# Altium schematic symbol library Modules.SchLib: 36 symbols
Pins are listed as number, name and electrical type; pins without a type are passive.

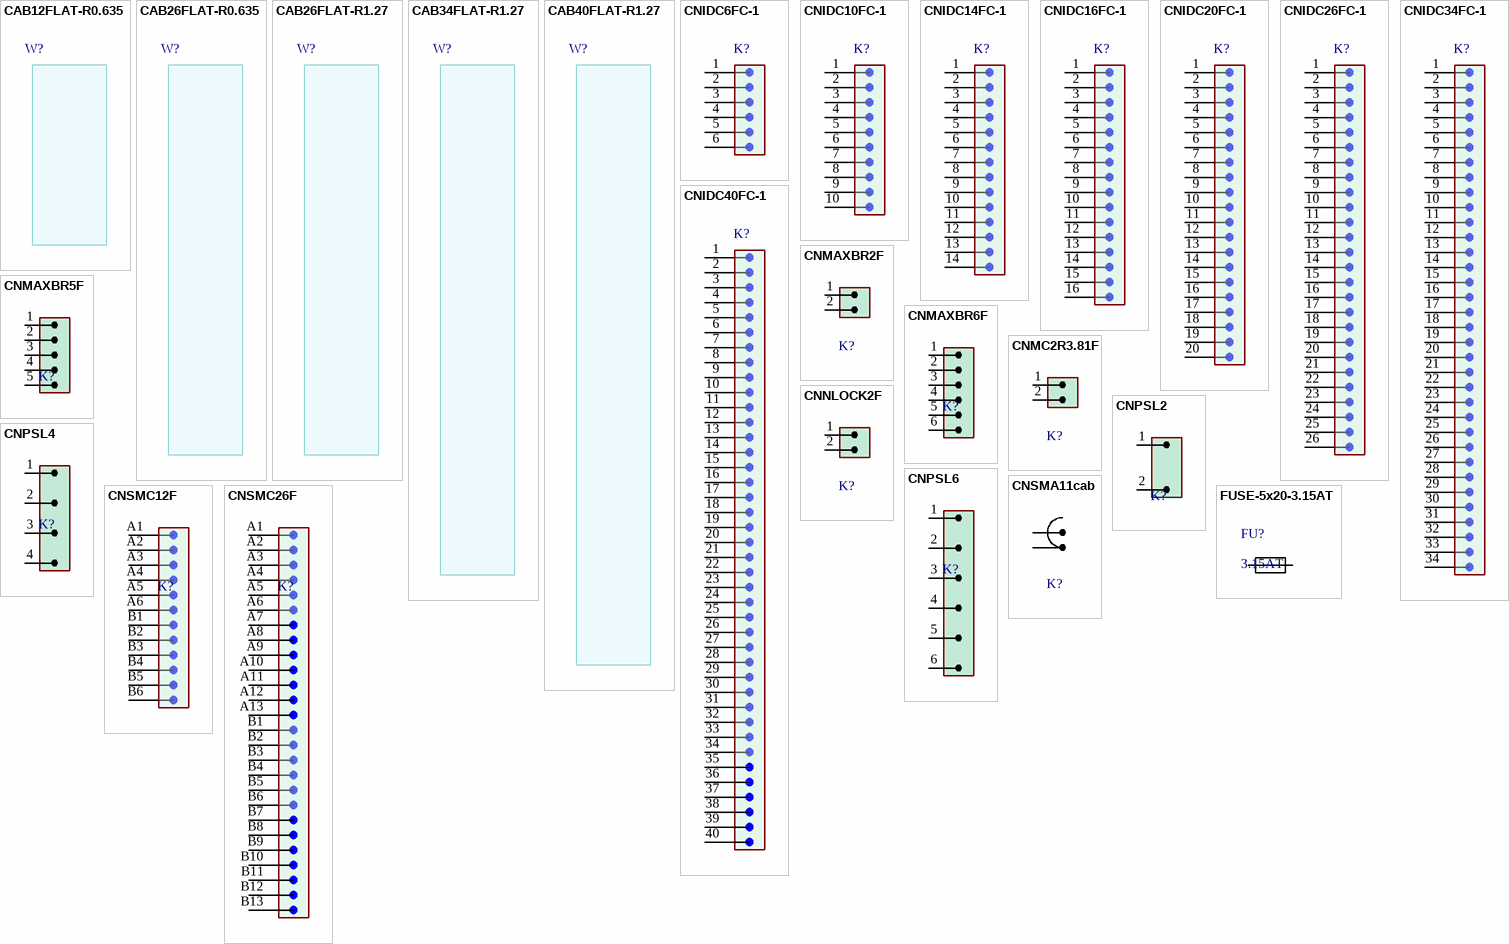
[diagram p0: symbols CAB12FLAT-R0.635 to FUSE-5x20-3.15AT]

## CAB12FLAT-R0.635
designator W?, comment 12way_26AWG_R0.635  (value not drawn)
Flat Cable 12Ways 26AWG R0.635; Sort: 610; Tech: MECH; Comment2: Length ?mm

## CAB26FLAT-R0.635
designator W?, comment 26way_26AWG_R0.635  (value not drawn)
Flat Cable 26Ways 26AWG R0.635; Sort: 610; Tech: MECH; Comment2: Length ?mm

## CAB26FLAT-R1.27
designator W?, comment 26way_26AWG_R1.27  (value not drawn)
Flat Cable 26Ways 26AWG R1.27; Sort: 610; Tech: MECH; Comment2: Length ?mm

## CAB34FLAT-R1.27
designator W?, comment 34way_26AWG_R1.27  (value not drawn)
Flat Cable 34Ways 26AWG R1.27; Sort: 610; Tech: MECH; Comment2: Length ?mm

## CAB40FLAT-R1.27
designator W?, comment 40way_26AWG_R1.27  (value not drawn)
Flat Cable 40Ways 26AWG R1.27; Sort: 610; Tech: MECH; Comment2: Length ?mm

## CNIDC6FC-1
designator K?, comment IDC6pin Female  (value not drawn)
Connector IDC 6 pin female cable; Sort: 610; Tech: THDW; Price: 0
pins: 1, 2, 3, 4, 5, 6

## CNIDC10FC-1
designator K?, comment IDC10pin Female  (value not drawn)
Connector IDC 10 pin female cable; Sort: 610; Tech: THDW; Price: 0
pins: 1, 2, 3, 4, 5, 6, 7, 8, 9, 10

## CNIDC14FC-1
designator K?, comment IDC14pin Female  (value not drawn)
Connector IDC 14 pin female cable; Sort: 610; Tech: THDW; Price: 0
pins: 1, 2, 3, 4, 5, 6, 7, 8, 9, 10, 11, 12, 13, 14

## CNIDC16FC-1
designator K?, comment IDC16pin Female  (value not drawn)
Connector IDC 16 pin female cable; Sort: 610; Tech: THDW; Price: 0
pins: 1, 2, 3, 4, 5, 6, 7, 8, 9, 10, 11, 12, 13, 14, 15, 16

## CNIDC20FC-1
designator K?, comment IDC20pin Female  (value not drawn)
Connector IDC 20 pin female cable; Sort: 610; Tech: THDW; Price: 0
pins: 1, 2, 3, 4, 5, 6, 7, 8, 9, 10, 11, 12, 13, 14, 15, 16, 17, 18, 19, 20

## CNIDC26FC-1
designator K?, comment IDC26pin Female  (value not drawn)
Connector IDC 26 pin female cable; Sort: 610; Tech: THDW; Price: 0
pins: 1, 2, 3, 4, 5, 6, 7, 8, 9, 10, 11, 12, 13, 14, 15, 16, 17, 18, 19, 20, 21, 22, 23, 24, 25, 26

## CNIDC34FC-1
designator K?, comment IDC34pin Female  (value not drawn)
Connector IDC 34 pin female cable; Sort: 610; Tech: THDW; Price: 0
pins: 1, 2, 3, 4, 5, 6, 7, 8, 9, 10, 11, 12, 13, 14, 15, 16, 17, 18, 19, 20, 21, 22, 23, 24, 25, 26, 27, 28, 29, 30, 31, 32, 33, 34

## CNIDC40FC-1
designator K?, comment IDC40pin Female  (value not drawn)
Connector IDC 40 pin female cable; Sort: 610; Tech: THDW; Price: 0
pins: 1, 2, 3, 4, 5, 6, 7, 8, 9, 10, 11, 12, 13, 14, 15, 16, 17, 18, 19, 20, 21, 22, 23, 24, 25, 26, 27, 28, 29, 30, 31, 32, 33, 34, 35, 36, 37, 38, 39, 40

## CNMAXBR2F
designator K?, comment ???  (value not drawn)
MaxBridge 2 pin female R2.54mm; Manufacturer: Erni; Sort: 610; Tech: THDW; Price: 0
pins: 1, 2

## CNMAXBR5F
designator K?, comment ???  (value not drawn)
MaxBridge 5 pin female R2.54mm; Manufacturer: Erni; Sort: 610; Tech: THDW; Price: 0
pins: 1, 2, 3, 4, 5

## CNMAXBR6F
designator K?, comment ???  (value not drawn)
MaxBridge 6 pin female R2.54mm; Manufacturer: Erni; Sort: 610; Tech: THDW; Price: 0
pins: 1, 2, 3, 4, 5, 6

## CNMC2R3.81F
designator K?, comment MC1.5/2-ST-3.81  (value not drawn)
Combicon 2 pin female R3.81mm; Manufacturer: PhoenixContact, Farnell; Sort: 610; Tech: THDW; Price: 0
pins: 1, 2

## CNNLOCK2F
designator K?, comment ???  (value not drawn)
Micro N Lock 2pin R3.0mm; Manufacturer: Molex; Sort: 610; Tech: THDW; Price: 0
pins: 1, 2

## CNPSL2
designator K?, comment ???  (value not drawn)
Combicon 2 pin female R3.81mm; Manufacturer: PhoenixContact, Farnell; Sort: 610; Tech: THDW; Price: 0
pins: 1, 2

## CNPSL4
designator K?, comment ???  (value not drawn)
Combicon 4 pin female R3.81mm; Manufacturer: PhoenixContact, Farnell; Sort: 610; Tech: THDW; Price: 0
pins: 1, 2, 3, 4

## CNPSL6
designator K?, comment ???  (value not drawn)
Combicon 6 pin female R3.81mm; Manufacturer: PhoenixContact, Farnell; Sort: 610; Tech: THDW; Price: 0
pins: 1, 2, 3, 4, 5, 6

## CNSMA11cab
designator K?, comment SMA  (value not drawn)
SMA connector for semi rigid 2.3mm cable 11mm long; Sort: 610; Tech: THDW; Price: 0
pins: 1, 2

## CNSMC12F
designator K?  (value not drawn)
Connector 26 pin female R1.27mm; Manufacturer: Erni; Sort: 610; Tech: THDW; Manufacturer No: CNSMC12F; Price: 0
pins: A1, A2, A3, A4, A5, A6, B1, B2, B3, B4, B5, B6

## CNSMC26F
designator K?, comment ???  (value not drawn)
Connector 26 pin female R1.27mm; Manufacturer: Erni; Sort: 610; Tech: THDW; Price: 0
pins: A1, A2, A3, A4, A5, A6, A7, A8, A9, A10, A11, A12, A13, B1, B2, B3, B4, B5, B6, B7, B8, B9, B10, B11, B12, B13

## FUSE-5x20-3.15AT
designator FU?, comment 3.15AT
Fuse 3.15A fast 2x50mm; Tech: MECH; Sort: 920; Package: 5x20mm

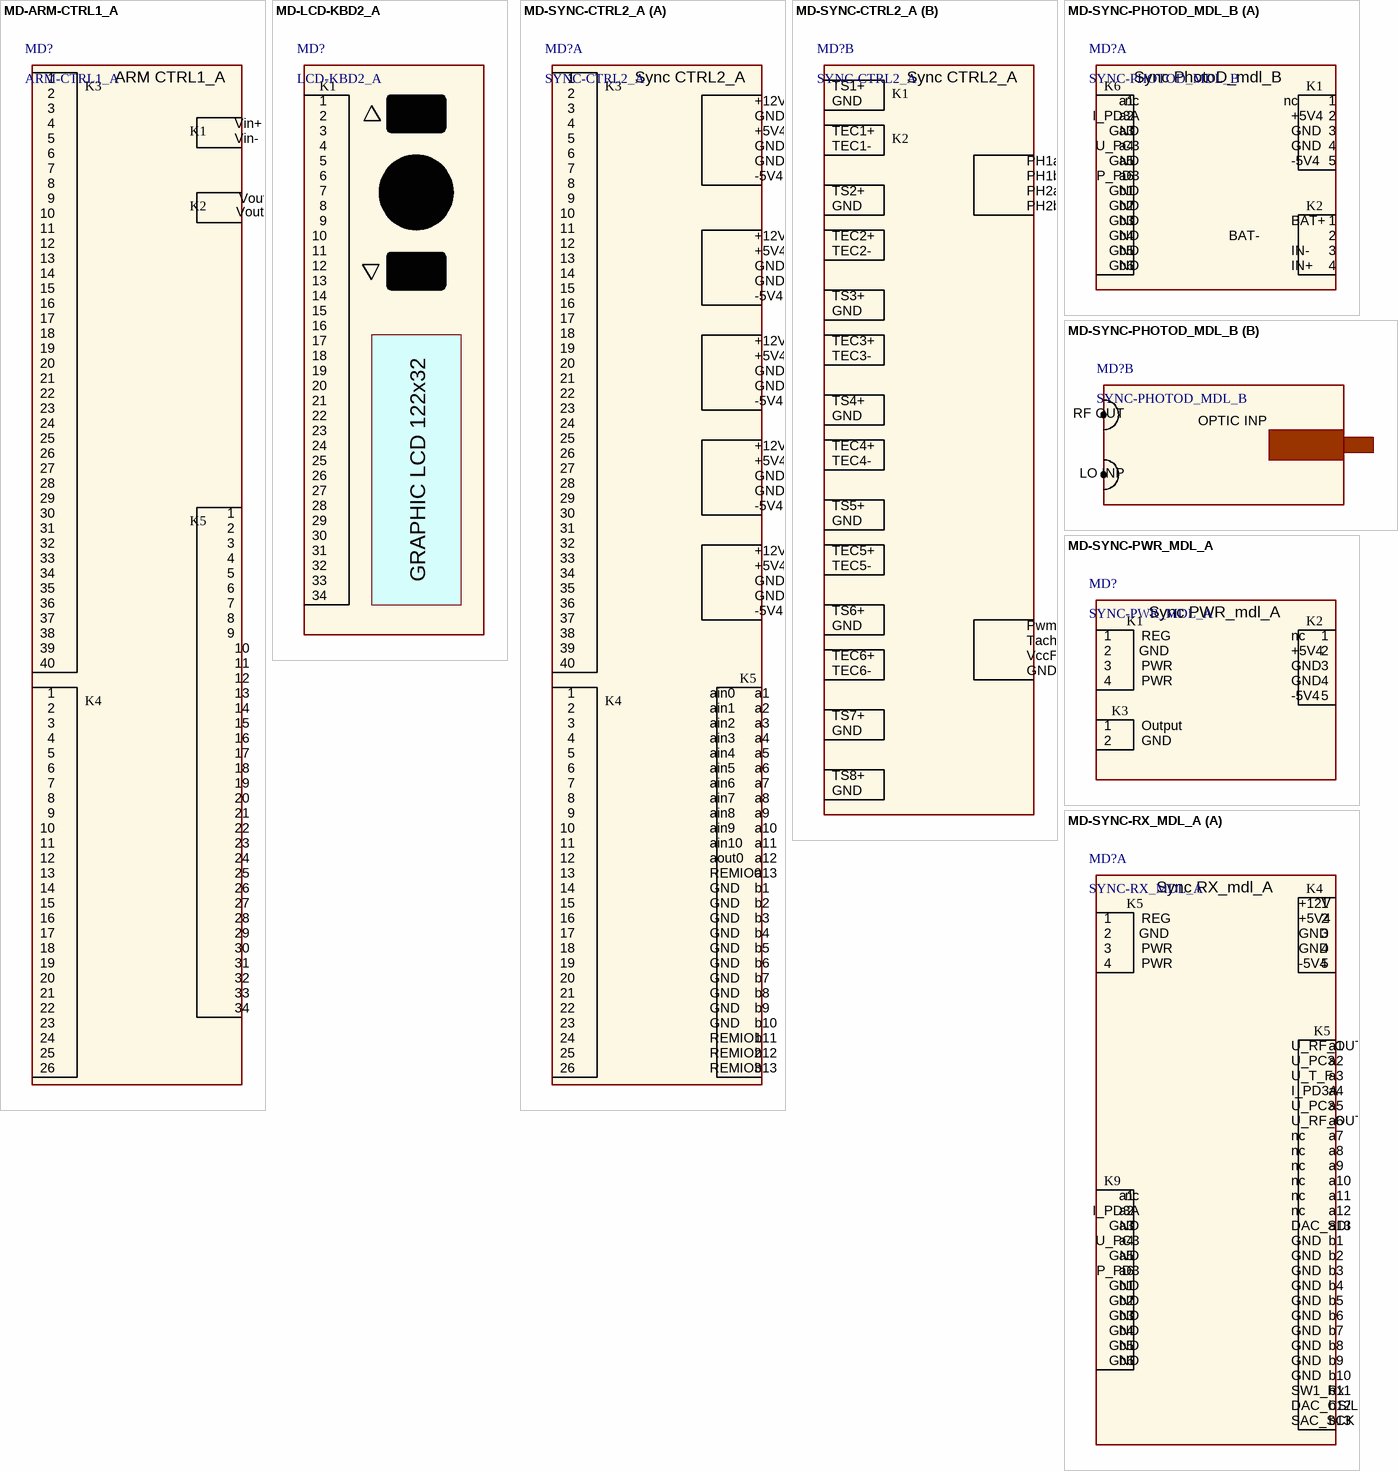
[diagram p1: symbols MD-ARM-CTRL1_A to MD-SYNC-RX_MDL_A]

## MD-ARM-CTRL1_A
designator MD?, comment ARM-CTRL1_A
ARM control module; Manufacturer: IT; Manufacturer No: ARM_CTRL1_A; Tech: MECH; Sort: 920
text: 1; ARM CTRL1_A; K3; 2; 3; 4; Vin+; K1; 5; Vin-; 6; 7; 8; 9; Vout+; K2; 10; Vout-; 11; 12; 13; 14; 15; 16; 17; 18; 19; 20; 21; 22; 23; 24; 25; 26; 27; 28; 29; 30; K5; 31; 32; 33; 34; 35; 36; 37; 38; 39; 40; K4

## MD-LCD-KBD2_A
designator MD?, comment LCD-KBD2_A
LCD module + encoder + 2 pushbuttons; Manufacturer: IT; Tech: MECH; Sort: 920; Manufacturer No: LCD-KBD2_A
text: K1; 1; 2; 3; 4; 5; 6; 7; 8; 9; 10; 11; 12; 13; 14; 15; 16; 17; 18; 19; 20; 21; 22; 23; 24; 25; 26; 27; 28; 29; 30; 31; 32; GRAPHIC LCD 122x32; 33; 34

## MD-SYNC-CTRL2_A
designator MD?, comment SYNC-CTRL2_A
Sync control module; Manufacturer: IT; Tech: MECH; Sort: 920; Manufacturer No: SYNC-CTRL2_A
part A text: 1; Sync CTRL2_A; K3; 2; +12V; 3; GND; 4; +5V4; 5; 6; 7; -5V4; 8; 9; 10; 11; 12; 13; 14; 15; 16; 17; 18; 19; 20; 21; 22; 23; 24; 25; 26; 27; 28; 29; 30; 31; 32; 33; 34; 35; 36; 37; 38; 39; 40; K5; ain0; a1; K4; ain1; a2; ain2; a3; ain3; a4; ain4; a5; ain5; a6; ain6; a7; ain7; a8; ain8; a9; ain9; a10; ain10; a11; aout0; a12; REMIO0; a13; b1; b2; b3; b4; b5; b6; b7; b8; b9; b10; REMIO1; b11; REMIO2; b12; REMIO3; b13
part B text: Sync CTRL2_A; TS1+; K1; GND; TEC1+; K2; TEC1-; PH1a; PH1b; TS2+; PH2a; PH2b; TEC2+; TEC2-; TS3+; TEC3+; TEC3-; TS4+; TEC4+; TEC4-; TS5+; TEC5+; TEC5-; TS6+; Pwm; Tacho; TEC6+; VccFan; TEC6-; TS7+; TS8+

## MD-SYNC-PHOTOD_MDL_B
designator MD?, comment SYNC-PHOTOD_MDL_B
Sync control module; Manufacturer: IT; Tech: MECH; Sort: 920; Manufacturer No: SYNC-PHOTOD_MDL_B
part A text: Sync PhotoD_mdl_B; K6; K1; a1; nc; 1; a2; I_PD3A; +5V4; 2; a3; GND; 3; a4; U_PC3; 4; a5; -5V4; 5; a6; P_PD3; b1; b2; K2; b3; BAT+; b4; BAT-; b5; IN-; b6; IN+
part B text: RF OUT; OPTIC INP; LO INP

## MD-SYNC-PWR_MDL_A
designator MD?, comment SYNC-PWR_MDL_A
Sync power output module; Manufacturer: IT; Tech: MECH; Sort: 920; Manufacturer No: SYNC-PWR_MDL_A
text: Sync PWR_mdl_A; K1; K2; 1; REG; nc; 2; GND; +5V4; 3; PWR; 4; -5V4; 5; K3; Output

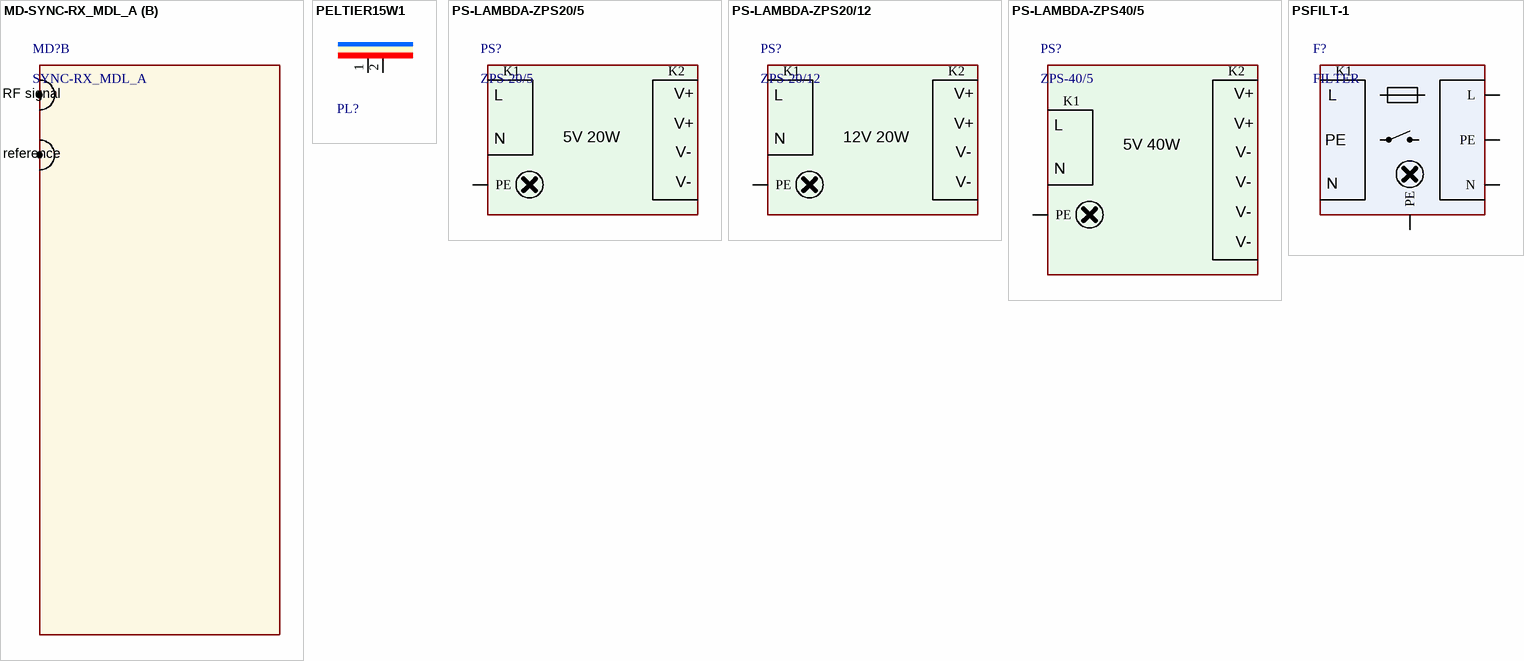
[diagram p2: symbols MD-SYNC-RX_MDL_A to PSFILT-1]

## MD-SYNC-RX_MDL_A
designator MD?, comment SYNC-RX_MDL_A
Sync control module; Manufacturer: IT; Tech: MECH; Sort: 920; Manufacturer No: SYNC-RX_MDL_A
part A text: Sync RX_mdl_A; K4; K5; +12V; 1; REG; +5V4; 2; GND; 3; PWR; 4; -5V4; 5; U_RF_OUT; a1; U_PC3; a2; U_T_F; a3; I_PD3A; a4; a5; U_RF_OUT_RFL; a6; nc; a7; a8; a9; K9; a10; a11; a12; DAC_SDI; a13; b1; b2; P_PD3; b3; b4; b5; b6; b7; b8; b9; b10; SW1_Rx; b11; DAC_CS/LD; b12; SAC_SCK; b13
part B text: RF signal; RF reference

## PELTIER15W1
designator PL?, comment ???  (value not drawn)
Combicon 6 pin female R3.81mm; Manufacturer: , Farnell; Sort: 610; Tech: THDW; Price: 0
pins: 1, 2

## PS-LAMBDA-ZPS20/5
designator PS?, comment ZPS-20/5
Power supply 20W 5V; Manufacturer: Lambda; Tech: MECH; Sort: 920; Manufacturer No: ZPS-20/5
pins: PE
text: K1; K2; L; V+; N; 5V 20W; V-

## PS-LAMBDA-ZPS20/12
designator PS?, comment ZPS-20/12
Power supply 20W 12V; Manufacturer: Lambda; Tech: MECH; Sort: 920; Manufacturer No: ZPS-20/12
pins: PE
text: K1; K2; L; V+; N; 12V 20W; V-

## PS-LAMBDA-ZPS40/5
designator PS?, comment ZPS-40/5
Power supply 40W 5V; Manufacturer: Lambda; Tech: MECH; Sort: 920; Manufacturer No: ZPS-40/5
pins: PE
text: K2; V+; K1; L; 5V 40W; V-; N

## PSFILT-1
designator F?, comment FILTER
Power supply Filter; Tech: MECH; Sort: 920
pins: L, N, PE, PE
text: K1